# Altium footprint library MOLEX_KK_TH_2PIN.PcbLib: 1 footprints
Each footprint in its own frame and in the unit in brackets; x right, y up, seen from the top. Pads: shape width x height; smd on the part's side, far side on the other; paste and mask are expansions set on the pad; w line width, h text height; cw(c..) or ccw(c..) is an arc to the next point about the centre after c.
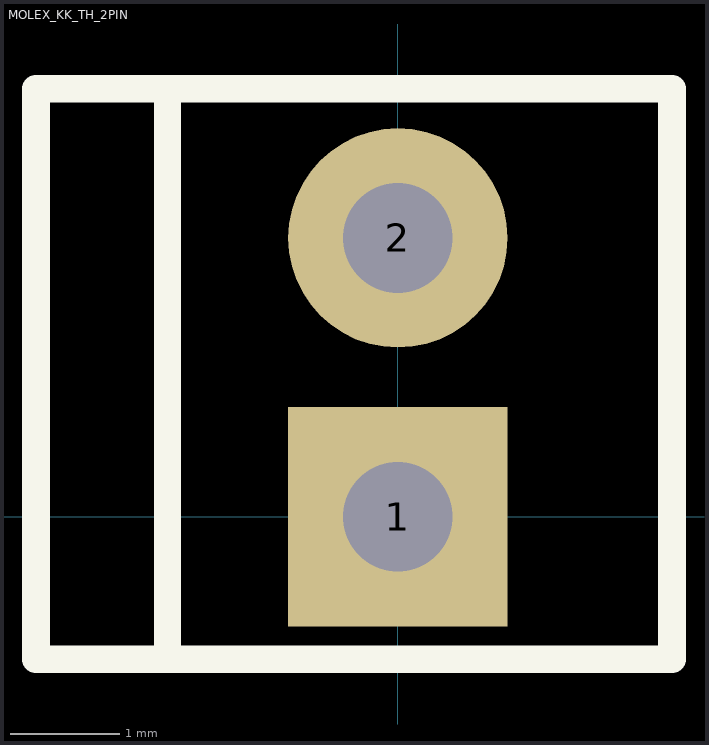
[diagram p0: the footprint, top view; thin cyan lines are the x and y axes]

## MOLEX_KK_TH_2PIN [mm]
pads (2):
  rect 2x2 hole 1: 1(0,0)
  round 2 hole 1: 2(0,2.54)
Top Overlay:
  lines w0.25: -2.1,-1.3 -2.1,3.9
  lines w0.254: -3.3,-1.3 2.5,-1.3 2.5,3.9 -3.3,3.9 -3.3,-1.3